# Altium footprint library PCB1.PcbLib: 11 footprints
Each footprint in its own frame and in the unit in brackets; x right, y up, seen from the top. Pads: shape width x height; smd on the part's side, far side on the other; paste and mask are expansions set on the pad; w line width, h text height; cw(c..) or ccw(c..) is an arc to the next point about the centre after c.
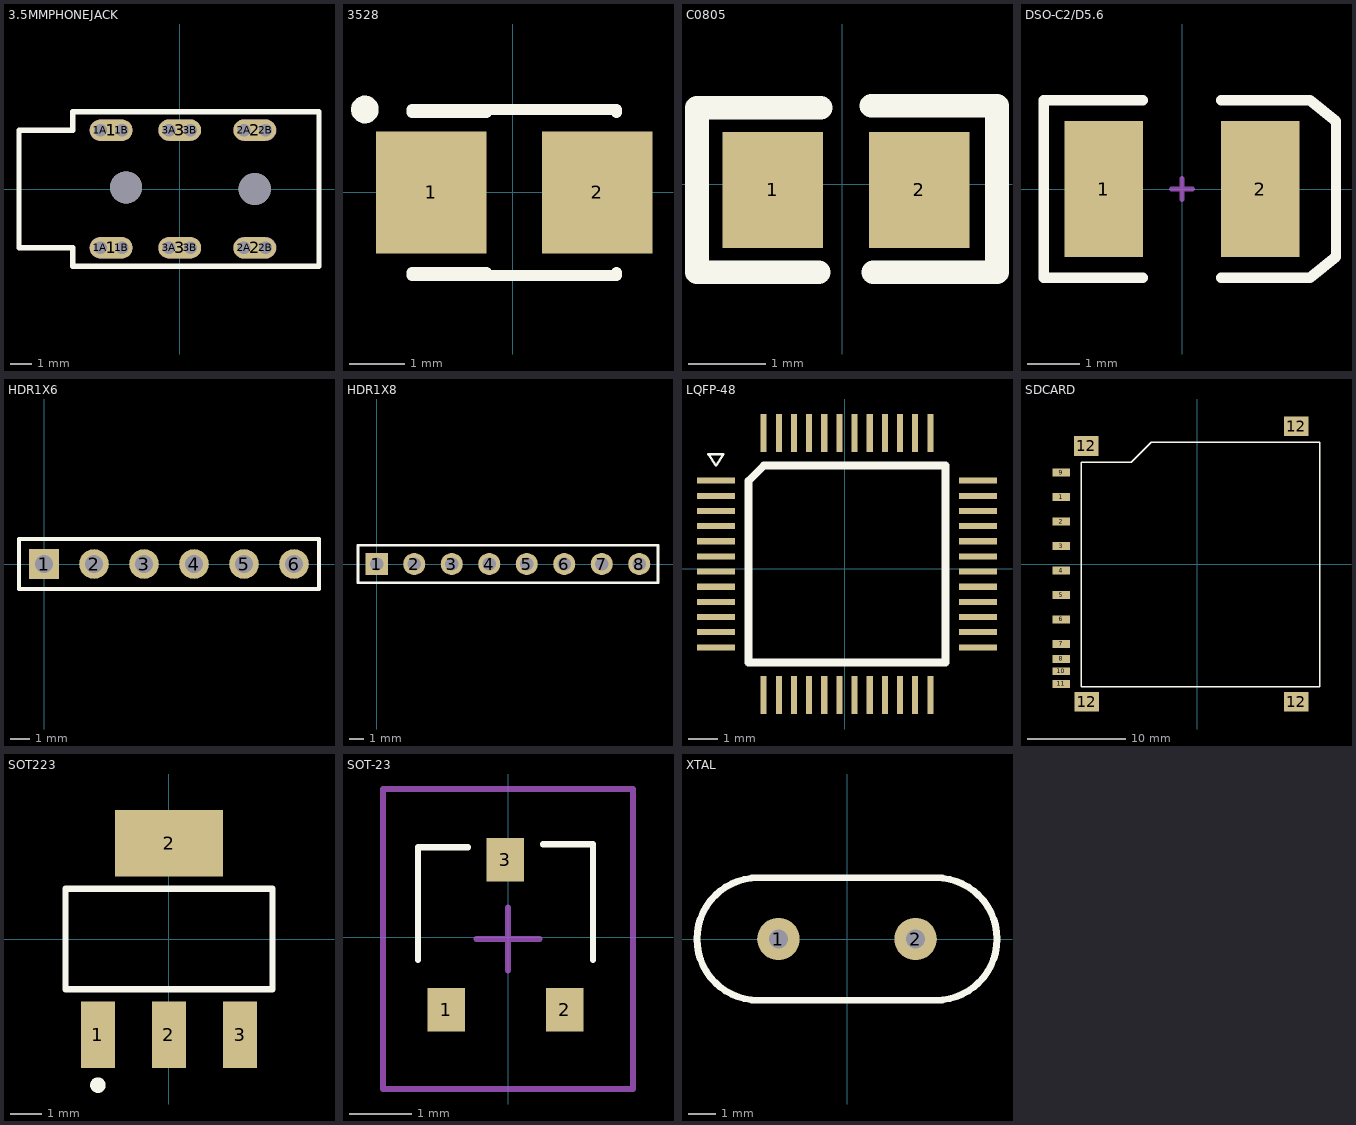
[diagram p0: the footprints below, top view; thin cyan lines are the x and y axes]

## 3.5MMPHONEJACK [mm]
pads (20):
  oval 2x1 all layers, no hole: 1(-3.199,-2.743) 1(-3.199,2.743) 2(3.5,-2.75) 2(3.5,2.75) 3(0,2.75) 3(0.001,-2.743)
  round 0.8 hole 0.6: 1A(-3.699,-2.743) 1A(-3.699,2.743) 1B(-2.699,-2.743) 1B(-2.699,2.743) 2A(3.007,-2.743) 2A(3.007,2.743) 2B(4.007,-2.743) 2B(4.007,2.743) 3A(-0.499,-2.743) 3A(-0.499,2.743) 3B(0.501,-2.743) 3B(0.501,2.743)
  round 1.5 hole 1.5: ""(-2.5,0.076) ""(3.5,0)
Top Overlay:
  lines w0.254: -5,-3.607 -5,-2.75 -7.5,-2.75 -7.5,2.75 -5,2.75 -5,3.6 6.484,3.6 6.5,3.584 6.5,-3.556 ; -5,-3.6 6.5,-3.6
Mechanical 1:
  lines w0.6: -3.699,-2.743 -2.699,-2.743 ; -3.699,2.743 -2.699,2.743 ; -0.499,-2.743 0.501,-2.743 ; -0.499,2.743 0.501,2.743 ; 3.007,-2.743 4.007,-2.743 ; 3.007,2.743 4.007,2.743
Mechanical 2:
  lines w1: -3.699,-2.743 -2.699,-2.743 ; -3.699,2.743 -2.699,2.743 ; -0.499,-2.743 0.501,-2.743 ; -0.499,2.743 0.501,2.743 ; 3.007,-2.743 4.007,-2.743 ; 3.007,2.743 4.007,2.743

## 3528 [mm]
pads (2):
  rect 2x2.2 smd: 1(-1.475,0) 2(1.525,0)
Top Overlay:
  circle w0.25: c-2.675,1.5 r0.125
  lines w0.2: -1.825,-1.5 1.875,-1.5 1.875,-1.45 ; -1.825,-1.45 -0.475,-1.45 ; -1.825,1.45 -0.475,1.45 ; -1.825,1.5 1.875,1.5 1.875,1.45

## C0805 [mm]
pads (2):
  rect 1.3x1.5 smd: 1(-0.899,-0.076) 2(1.001,-0.076)
Top Overlay:
  lines w0.305: -0.305,-1.143 -1.88,-1.143 -1.88,0.991 -0.279,0.991 ; 0.381,1.016 2.007,1.016 2.007,-1.143 0.406,-1.143

## DSO-C2/D5.6 [mm] "SM LED; 2 C-Bend Leads; Body 3.5 x 2.8 x 1.9 mm, inc leads (LxWxH typ)"
height 1.9
pads (2):
  rect 1.5x2.6 smd: 1(-1.5,0) 2(1.5,0)
Top Overlay:
  lines w0.2: -0.75,-1.7 -2.65,-1.7 -2.65,1.7 -0.75,1.7 ; 0.75,-1.7 2.45,-1.7 2.95,-1.3 2.95,1.3 2.45,1.7 0.75,1.7
Mechanical 1:
  lines w0.1: -0.2,0 0.2,0 ; 0,-0.2 0,0.2

## HDR1X6 [mm] "Connector; Header; 6 Position"
pads (6):
  rect 1.5x1.5 hole 0.9: 1(0,0)
  round 1.5 hole 0.9: 2(2.54,0) 3(5.08,0) 4(7.62,0) 5(10.16,0) 6(12.7,0)
Top Overlay:
  lines w0.2: -1.27,-1.27 13.97,-1.27 13.97,1.27 -1.27,1.27 -1.27,-1.27

## HDR1X8 [mm] "Connector; Header; 8 Position"
pads (8):
  rect 1.5x1.5 hole 0.9: 1(0,0)
  round 1.5 hole 0.9: 2(2.54,0) 3(5.08,0) 4(7.62,0) 5(10.16,0) 6(12.7,0) 7(15.24,0) 8(17.78,0)
Top Overlay:
  lines w0.2: -1.27,-1.27 -1.27,1.27 19.05,1.27 19.05,-1.27 -1.27,-1.27

## LQFP-48 [mil]
pads (48):
  rect 50x8 smd: 1(-170,116) 2(-170,96) 3(-170,76) 4(-170,56) 5(-170,36) 6(-170,16) 7(-170,-4) 8(-170,-24) 9(-170,-44) 10(-170,-64) 11(-170,-84) 12(-170,-104) 25(176,-104) 26(176,-84) 27(176,-64) 28(176,-44) 29(176,-24) 30(176,-4) 31(176,16) 32(176,36) 33(176,56) 34(176,76) 35(176,96) 36(176,116)
  rect 8x50 smd: 13(-107,-167) 14(-87,-167) 15(-67,-167) 16(-47,-167) 17(-27,-167) 18(-7,-167) 19(13,-167) 20(33,-167) 21(53,-167) 22(73,-167) 23(93,-167) 24(113,-167) 37(113,179) 38(93,179) 39(73,179) 40(53,179) 41(33,179) 42(13,179) 43(-7,179) 44(-27,179) 45(-47,179) 46(-67,179) 47(-87,179) 48(-107,179)
Top Overlay:
  lines w3: -180,151 -170,136 -160,151 -180,151
  lines w10: -127,-124 -127,116 -107,136 133,136 133,-124 -127,-124

## SDCARD [mm]
pads (15):
  rect 1.8x0.8 smd: 1(-13.8,6.804) 2(-13.8,4.315) 3(-13.8,1.826) 4(-13.8,-0.664) 5(-13.8,-3.153) 6(-13.8,-5.642) 7(-13.8,-8.131) 8(-13.8,-9.655) 9(-13.8,9.293) 10(-13.8,-10.9) 11(-13.8,-12.195)
  rect 2.5x2 smd: 12(-11.278,12) 12(-11.201,-14) 12(10.076,-14) 12(10.076,14)
Top Overlay:
  lines w0.152: -8.212,10.36 -11.768,10.36 ; 6.012,12.392 12.446,12.392 12.446,-12.5 8.552,-12.5 ; 9.06,-12.5 -11.768,-12.5 -11.768,10.36 ; 9.06,12.392 -4.656,12.392 -6.688,10.36 -11.768,10.36

## SOT223 [mm]
pads (4):
  rect 1.1x2.15 smd: 1(-2.3,-3.1) 2(0,-3.1) 3(2.3,-3.1)
  rect 3.5x2.15 smd: 2(0,3.1)
Top Overlay:
  circle w0.25: c-2.3,-4.725 r0.125
  lines w0.2: -3.35,-1.625 3.35,-1.625 3.35,1.625 -3.35,1.625 -3.35,-1.625

## SOT-23 [mm]
pads (3):
  rect 0.6x0.7 smd: 1(-0.99,-1.159) 2(0.91,-1.159) 3(-0.04,1.241)
Top Overlay:
  lines w0.1: -1.44,-0.359 -1.44,1.441 -0.64,1.441 ; 0.56,1.491 1.36,1.491 1.36,-0.359
Mechanical 15:
  lines w0.1: -0.5,-0.025 0.5,-0.025 ; 0,-0.525 0,0.475 ; -2,-2.425 -2,2.375 2,2.375 2,-2.425 -2,-2.425

## XTAL [mil]
pads (2):
  round 62 hole 28: 1(-100,0) 2(100,0)
Top Overlay:
  lines w10: -135,-89.35 135,-89.35 ; -129.53,-89.37 cw(c-129.53,0) -129.53,89.37 ; -129.53,89.3 130.53,89.3 ; 129.53,-89.37 ccw(c129.53,0) 129.53,89.37